# Altium footprint library TQFN.PcbLib: 4 footprints
Each footprint in its own frame and in the unit in brackets; x right, y up, seen from the top. Pads: shape width x height; smd on the part's side, far side on the other; paste and mask are expansions set on the pad; w line width, h text height; cw(c..) or ccw(c..) is an arc to the next point about the centre after c.
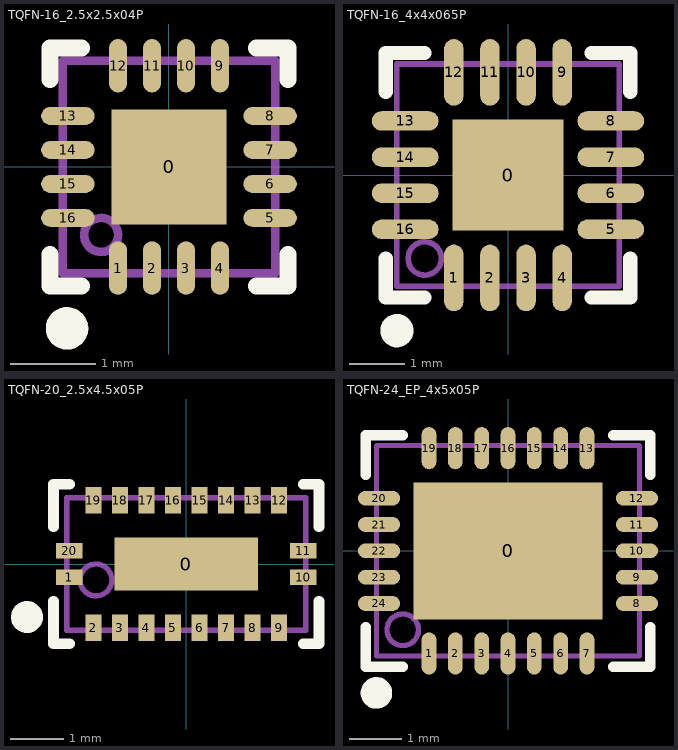
[diagram p0: the footprints below, top view; thin cyan lines are the x and y axes]

## TQFN-16_2.5x2.5x04P [mm] "QFN, 16-Leads, Body 3.00x3.00mm, Pitch 0.50mm, Thermal Pad 1.70x1.70mm, IPC Medium Density"
height 1
pads (17):
  rect 1.35x1.35 smd mask+0.051: 0(0,0)
  oval 0.21x0.63 smd mask+0.051: 1(-0.6,-1.19) 2(-0.2,-1.19) 3(0.2,-1.19) 4(0.6,-1.19) 9(0.6,1.19) 10(0.2,1.19) 11(-0.2,1.19) 12(-0.6,1.19)
  oval 0.63x0.21 smd mask+0.051: 5(1.19,-0.6) 6(1.19,-0.2) 7(1.19,0.2) 8(1.19,0.6) 13(-1.19,0.6) 14(-1.19,0.2) 15(-1.19,-0.2) 16(-1.19,-0.6)
Top Overlay:
  circle w0.25: c-1.2,-1.9 r0.125
  lines w0.2: -1.4,-1.03 -1.4,-1.4 -1.03,-1.4 ; -1.4,1.03 -1.4,1.4 -1.03,1.4 ; 1.03,-1.4 1.4,-1.4 1.4,-1.03 ; 1.03,1.4 1.4,1.4 1.4,1.03
Mechanical 13:
  circle w0.1: c-0.8,-0.8 r0.2
  lines w0.1: -1.25,-1.25 -1.25,1.25 1.25,1.25 1.25,-1.25 -1.25,-1.25

## TQFN-16_4x4x065P [mm] "QFN, 16-Leads, Body 3.00x3.00mm, Pitch 0.50mm, Thermal Pad 1.70x1.70mm, IPC Medium Density"
height 1
pads (17):
  rect 2x2 smd mask+0.051: 0(0,0)
  oval 0.35x1.2 smd mask+0.051: 1(-0.975,-1.85) 2(-0.325,-1.85) 3(0.325,-1.85) 4(0.975,-1.85) 9(0.975,1.85) 10(0.325,1.85) 11(-0.325,1.85) 12(-0.975,1.85)
  oval 1.2x0.35 smd mask+0.051: 5(1.85,-0.975) 6(1.85,-0.325) 7(1.85,0.325) 8(1.85,0.975) 13(-1.85,0.975) 14(-1.85,0.325) 15(-1.85,-0.325) 16(-1.85,-0.975)
Top Overlay:
  circle w0.3: c-2,-2.8 r0.15
  lines w0.254: -2.2,-1.5 -2.2,-2.2 -1.5,-2.2 ; -2.2,1.5 -2.2,2.2 -1.5,2.2 ; 1.5,-2.2 2.2,-2.2 2.2,-1.5 ; 1.5,2.2 2.2,2.2 2.2,1.5
Mechanical 13:
  circle w0.1: c-1.5,-1.5 r0.3
  lines w0.1: -2,-2 -2,2 2,2 2,-2 -2,-2

## TQFN-20_2.5x4.5x05P [mm]
pads (21):
  rect 2.7x1 smd mask+0.051: 0(0,0)
  rect 0.5x0.3 smd mask+0.051: 1(-2.2,-0.25) 10(2.2,-0.25) 11(2.2,0.25) 20(-2.2,0.25)
  rect 0.3x0.5 smd mask+0.051: 2(-1.75,-1.2) 3(-1.25,-1.2) 4(-0.75,-1.2) 5(-0.25,-1.2) 6(0.25,-1.2) 7(0.75,-1.2) 8(1.25,-1.2) 9(1.75,-1.2) 12(1.75,1.2) 13(1.25,1.2) 14(0.75,1.2) 15(0.25,1.2) 16(-0.25,1.2) 17(-0.75,1.2) 18(-1.25,1.2) 19(-1.75,1.2)
Top Overlay:
  circle w0.3: c-3,-1 r0.15
  lines w0.2: -2.5,-0.7 -2.5,-1.5 -2.2,-1.5 ; -2.5,0.7 -2.5,1.5 -2.2,1.5 ; 2.2,-1.5 2.5,-1.5 2.5,-0.7 ; 2.2,1.5 2.5,1.5 2.5,0.7
Mechanical 13:
  circle w0.1: c-1.7,-0.3 r0.3
  lines w0.1: -2.25,-1.25 2.25,-1.25 2.25,1.25 -2.25,1.25 -2.25,-1.25

## TQFN-24_EP_4x5x05P [mm]
pads (25):
  rect 3.6x2.6 smd mask+0.051: 0(0,0)
  oval 0.28x0.8 smd mask+0.051: 1(-1.5,-1.95) 2(-1,-1.95) 3(-0.5,-1.95) 4(0,-1.95) 5(0.5,-1.95) 6(1,-1.95) 7(1.5,-1.95) 13(1.5,1.95) 14(1,1.95) 15(0.5,1.95) 16(0,1.95) 17(-0.5,1.95) 18(-1,1.95) 19(-1.5,1.95)
  oval 0.8x0.28 smd mask+0.051: 8(2.45,-1) 9(2.45,-0.5) 10(2.45,0) 11(2.45,0.5) 12(2.45,1) 20(-2.45,1) 21(-2.45,0.5) 22(-2.45,0) 23(-2.45,-0.5) 24(-2.45,-1)
Top Overlay:
  circle w0.3: c-2.5,-2.7 r0.15
  lines w0.2: -2.7,-1.45 -2.7,-2.2 -2,-2.2 ; -2.7,1.45 -2.7,2.2 -2,2.2 ; 2,-2.2 2.7,-2.2 2.7,-1.45 ; 2,2.2 2.7,2.2 2.7,1.45
Mechanical 13:
  circle w0.1: c-2,-1.5 r0.3
  lines w0.1: -2.5,-2 -2.5,2 2.5,2 2.5,-2 -2.5,-2